# Altium footprint library SparkFun-Capacitors.PCBLIB: 25 footprints (part 2 of 2)
Each footprint in its own frame and in the unit in brackets; x right, y up, seen from the top. Pads: shape width x height; smd on the part's side, far side on the other; paste and mask are expansions set on the pad; w line width, h text height; cw(c..) or ccw(c..) is an arc to the next point about the centre after c.
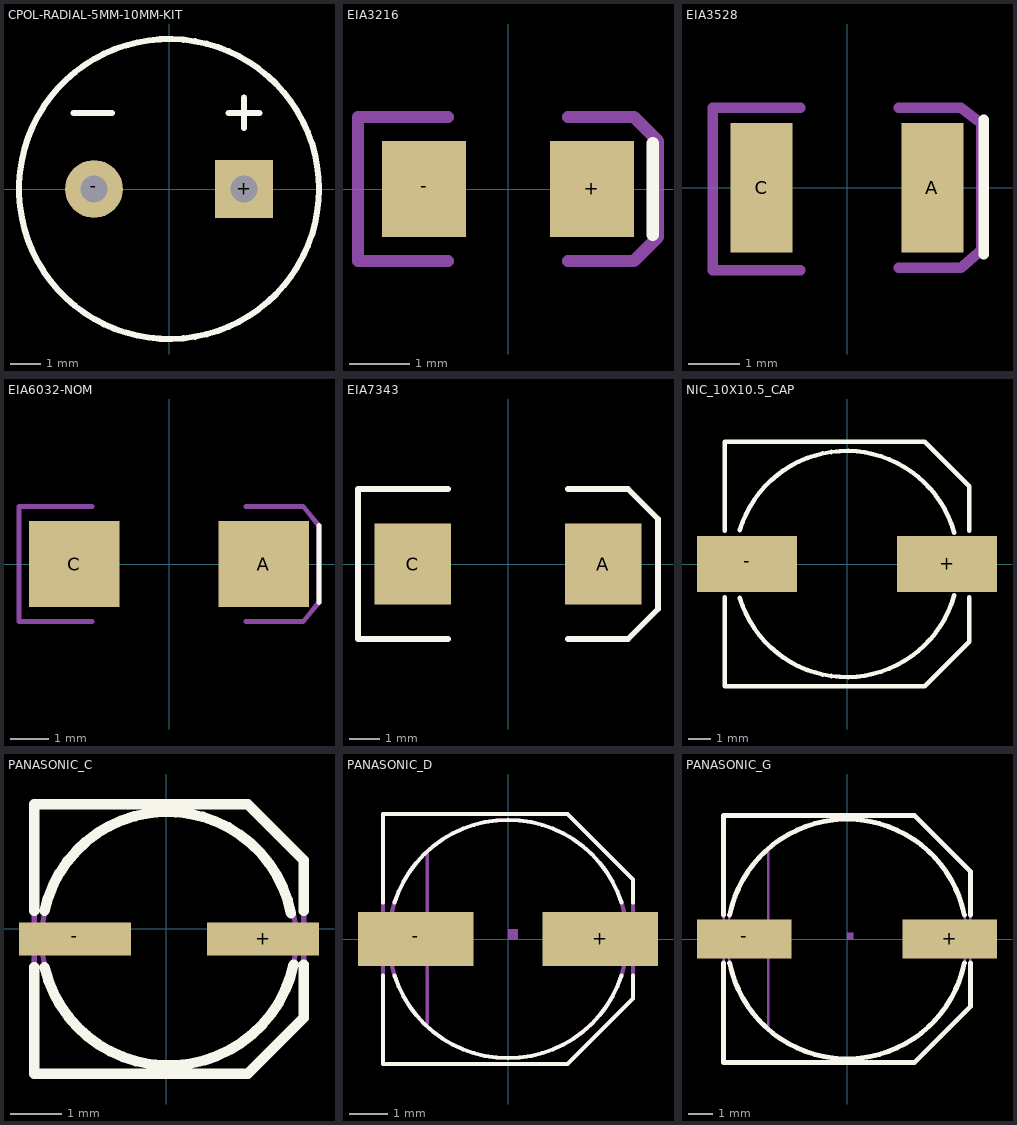
[diagram p1: the footprints below, top view; thin cyan lines are the x and y axes]

## CPOL-RADIAL-5MM-10MM-KIT [mil]
pads (2):
  rect 76x76 hole 35.43: +(98.43,0)
  round 76 hole 35.43: -(-98.43,0)
Top Overlay:
  circle w8: c0,0 r196.85
  lines w8: -125,100 -75,100 ; 78.43,100 118.43,100 ; 98.43,80 98.43,120
Top Solder:
  circle w0: c-98.43,0 r17.6
  circle w0: c98.43,0 r17.72
Bottom Solder:
  circle w0: c-98.43,0 r38.5
  rectangle: 59.06,-39.37 137.8,39.37
3D body "CAPPRD500W60D1250H2000-V-000-300.STEP": height 787.4, standoff -118.11, extent -246.06,-246.03 246.16,246.04

## EIA3216 [mil]
pads (2):
  rect 55.12x62.99 smd: +(55.12,0) -(-55.12,0)
Top Overlay:
  lines w8: 95,-30 95,30
Mechanical 16:
  lines w8: -39.37,-47.24 -98.43,-47.24 -98.43,47.24 -39.37,47.24 ; 39.37,-47.24 82.68,-47.24 98.43,-31.5 98.43,31.5 82.68,47.24 39.37,47.24

## EIA3528 [mm]
pads (2):
  rect 1.2x2.5 smd: A(1.65,0) C(-1.65,0)
Top Overlay:
  lines w0.203: 2.641,-1.286 2.641,1.311
Mechanical 16:
  lines w0.203: -0.9,-1.6 -2.6,-1.6 -2.6,1.55 -0.9,1.55 ; 1,-1.55 2.2,-1.55 2.6,-1.2 2.6,1.25 2.2,1.55 1,1.55

## EIA6032-NOM [mil]
pads (2):
  rect 93.31x87.8 smd: A(97.24,0) C(-97.24,0)
Top Overlay:
  lines w5: 153.94,-39.37 153.94,39.37
Mechanical 16:
  lines w5: -78.74,-59.06 -153.94,-59.06 -153.94,59.06 -78.74,59.06 ; 78.74,-59.06 137.8,-59.06 153.94,-39.37 153.94,39.37 137.8,59.06 78.74,59.06

## EIA7343 [mil]
pads (2):
  rect 100.39x106.3 smd: A(124.8,0) C(-124.8,0)
Top Overlay:
  lines w8: -78.74,-98.43 -196.85,-98.43 -196.85,98.43 -78.74,98.43 ; 78.74,-98.43 157.48,-98.43 196.85,-59.06 196.85,59.06 157.48,98.43 78.74,98.43

## NIC_10X10.5_CAP [mil]
pads (2):
  rect 177.17x98.43 smd: +(177.17,0) -(-177.17,0)
Top Overlay:
  lines w8: -216.54,-59.06 -216.54,-216.54 137.8,-216.54 216.54,-137.8 216.54,-59.06 ; -216.54,59.06 -216.54,216.54 137.8,216.54 216.54,137.8 216.54,59.06 ; -190,-60 ccw(c-0.72,-2.51) 190,-55 ; -190,60 cw(c-0.72,2.51) 190,55

## PANASONIC_C [mm]
pads (2):
  rect 2.2x0.65 smd: +(1.9,-0.2) -(-1.8,-0.2)
Top Overlay:
  lines w0.203: -2.6,-0.75 -2.6,-2.85 1.6,-2.85 2.7,-1.75 2.7,-0.7 ; -2.6,0.35 -2.6,2.45 1.6,2.45 2.7,1.35 2.7,0.35 ; -2.4,-0.75 ccw(c0.044,-0.175) 2.5,-0.7 ; -2.4,0.35 cw(c0.02,-0.175) 2.45,0.3
Mechanical 16:
  circle w0.102: c0.05,-0.2 r2.5
  lines w0.102: -2.6,-2.85 1.6,-2.85 2.7,-1.75 2.7,1.35 1.6,2.45 -2.6,2.45 -2.6,-2.85

## PANASONIC_D [mm]
pads (2):
  rect 3x1.4 smd: +(2.4,0) -(-2.4,0)
Top Overlay:
  lines w0.102: -3.25,-0.95 -3.25,-3.25 1.55,-3.25 3.25,-1.55 3.25,-0.95 ; -3.25,0.95 -3.25,3.25 1.55,3.25 3.25,1.55 3.25,0.95 ; -2.95,-0.95 ccw(c0,0) 2.95,-0.95 ; -2.95,0.95 cw(c0,0) 2.95,0.95
Mechanical 16:
  circle w0.102: c0,0 r3.1
  rectangle: -3.65,-0.35 -3.05,0.35
  rectangle: 3.05,-0.35 3.65,0.35
  region: 0,0 0.254,0 0.254,0.254 0,0.254
  lines w0.102: -2.1,-2.2 -2.1,2.25 ; -3.25,-3.25 1.55,-3.25 3.25,-1.55 3.25,1.55 1.55,3.25 -3.25,3.25 -3.25,-3.25

## PANASONIC_G [mil]
pads (2):
  rect 153.54x62.99 smd: +(167.32,0) -(-167.32,0)
Top Overlay:
  lines w8: -200.79,-39.37 -200.79,-200.79 110.24,-200.79 200.79,-110.24 200.79,-39.37 ; -200.79,39.37 -200.79,200.79 110.24,200.79 200.79,110.24 200.79,39.37 ; -190.94,-39.37 ccw(c0,0) 190.94,-39.37 ; -190.94,39.37 cw(c0,0) 190.94,39.37
Mechanical 16:
  circle w4: c0,0 r194.88
  rectangle: -230.32,-17.72 -192.91,17.72
  rectangle: 192.91,-17.72 230.32,17.72
  region: 0,0 10,0 10,10 0,10
  lines w4: -127.95,-143.7 -127.95,145.67 ; -200.79,-200.79 110.24,-200.79 200.79,-110.24 200.79,110.24 110.24,200.79 -200.79,200.79 -200.79,-200.79